# EAGLE library part PMOD-2X6-S (library Mechanical)
PMOD 2x6 System board (female) connector
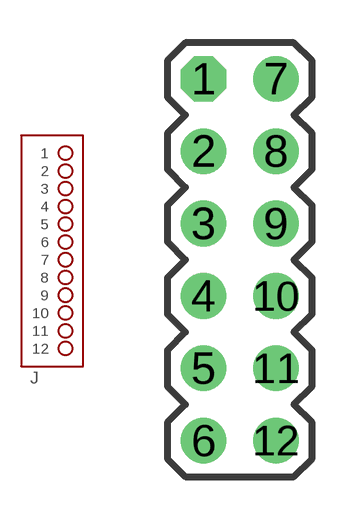
[diagram p67: symbol with the pads of PMOD-2X6-S; footprint PMOD-2X6-S]

Designator prefix J

## PMOD-2X6-S  [PMOD-2X6-S]
1  1  pas
2  2  pas
3  3  pas
4  4  pas
5  5  pas
6  6  pas
7  7  pas
8  8  pas
9  9  pas
10  10  pas
11  11  pas
12  12  pas

## Footprint PMOD-2X6-S (pad centres in mm)
PMOD 2x6 System board (female) connector
drill 1.067 octagon: 1 -1.27,6.35
drill 1.067: 2 -1.27,3.81; 3 -1.27,1.27; 4 -1.27,-1.27; 5 -1.27,-3.81; 6 -1.27,-6.35; 7 1.27,6.35; 8 1.27,3.81; 9 1.27,1.27; 10 1.27,-1.27; 11 1.27,-3.81; 12 1.27,-6.35